# Altium integrated library OSTTC020162.IntLib: 1 symbol
Pins are listed as number, name and electrical type; pins without a type are passive.

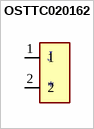
[diagram p0: symbol OSTTC020162]

## OSTTC020162
designator J
2 Position Wire to Board Terminal Block Horizontal with Board 0.197 _5.00mm_ Through Hole; MF: On Shore; MP: OSTTC020162; Package: None; Availability: Unavailable; Value: *; SnapEDA_Link: https://www.snapeda.com/parts/OSTTC020162/On%20Shore%20Technology%20Inc./view-part/13090/?ref=snap; Price: None
footprint OST_OSTTC020162
pins: 1, 2